# EAGLE library part TPS77533D (library tps775x)
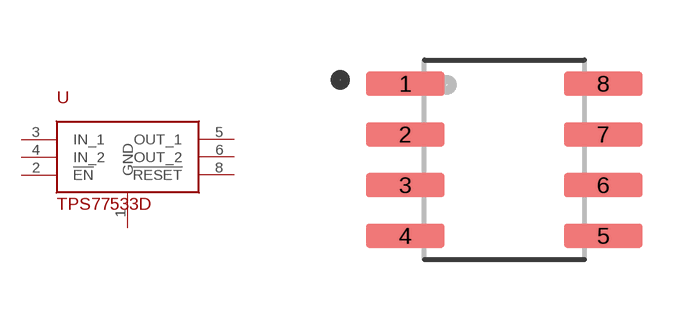
[diagram p0: symbol with the pads of SOIC127P600X175-8N; footprint SOIC127P600X175-8N]

Designator prefix -

## TPS77533D  [SOIC127P600X175-8N]
1  GND  pwr
2  !EN  in
3  IN_1  pwr
4  IN_2  pwr
5  OUT_1  pwr
6  OUT_2
8  !RESET  in

## Footprint SOIC127P600X175-8N (pad centres in mm)
smd 1.97 x 0.6: 1 -2.475,1.905; 2 -2.475,0.635; 3 -2.475,-0.635; 4 -2.475,-1.905; 5 2.475,-1.905; 6 2.475,-0.635; 7 2.475,0.635; 8 2.475,1.905